# Altium footprint library Connector - FFC_FPC.PcbLib: 57 footprints (part 1 of 4)
Each footprint in its own frame and in the unit in brackets; x right, y up, seen from the top. Pads: shape width x height; smd on the part's side, far side on the other; paste and mask are expansions set on the pad; w line width, h text height; cw(c..) or ccw(c..) is an arc to the next point about the centre after c.
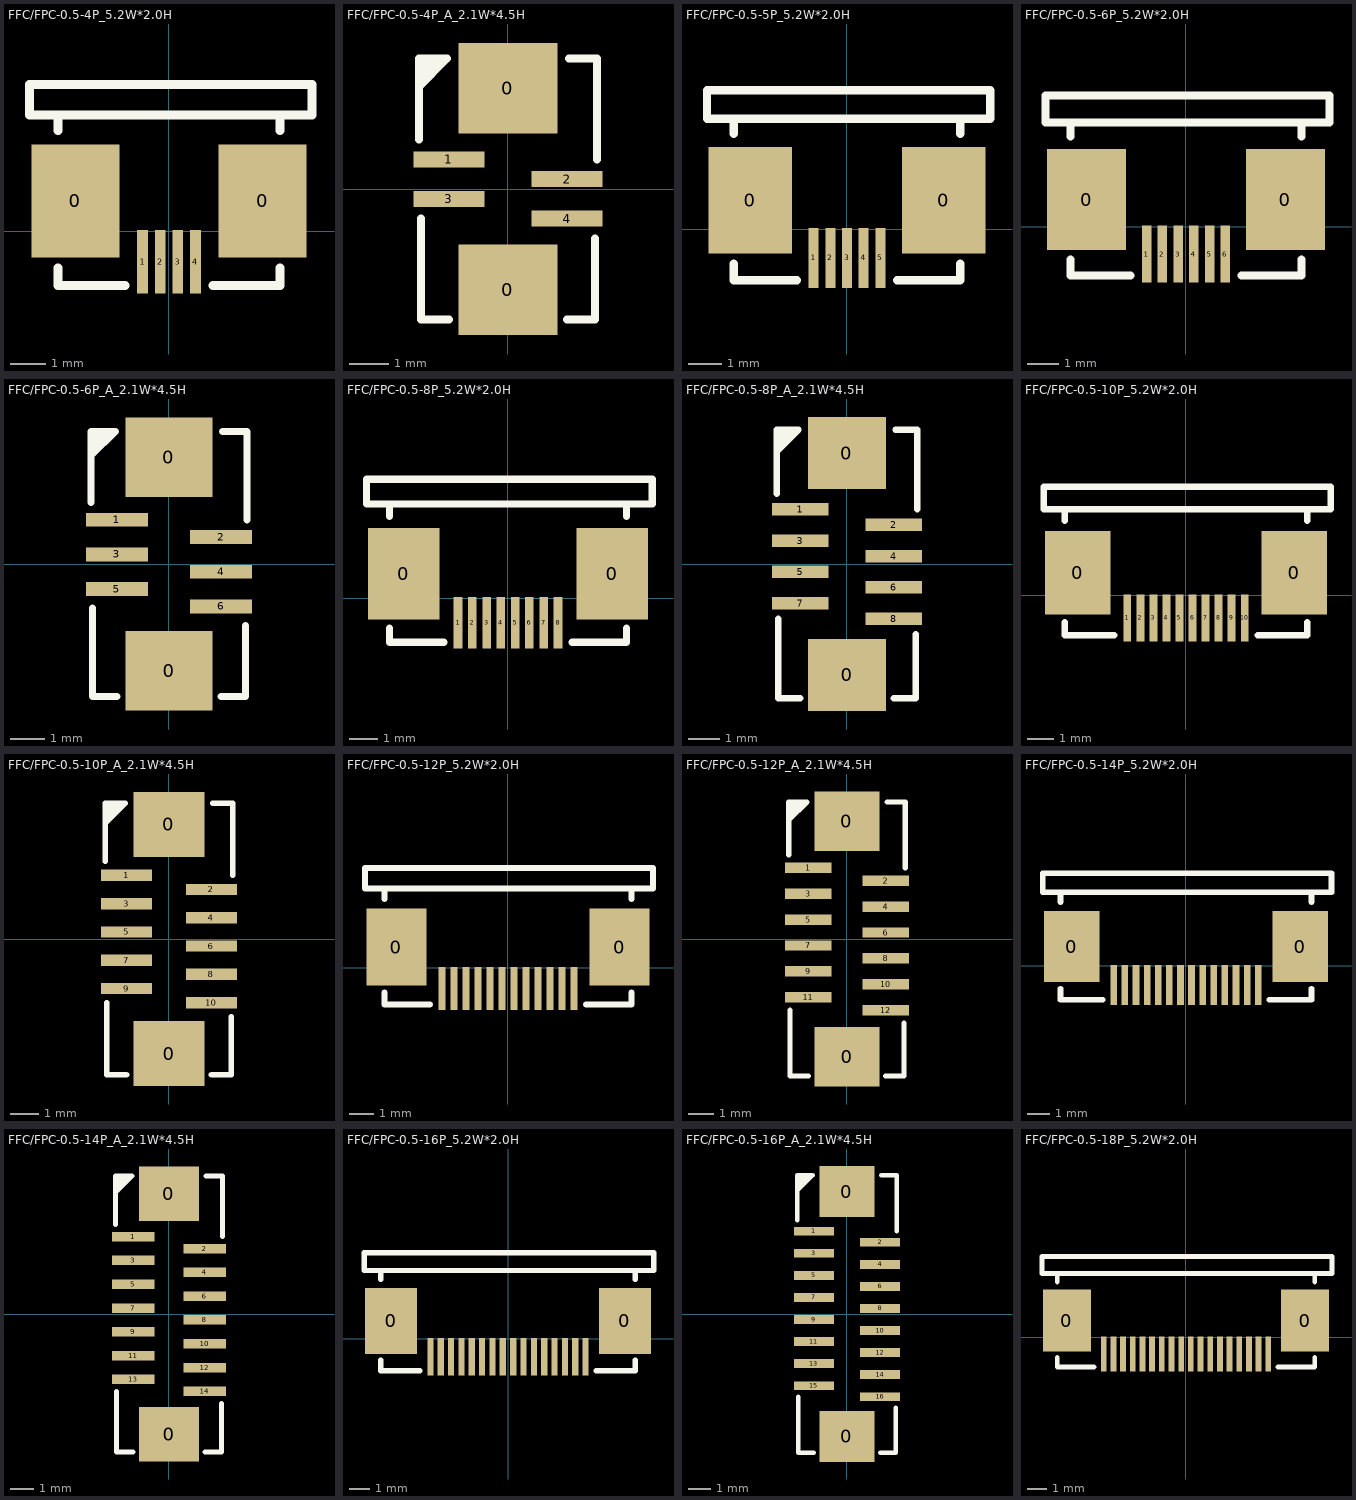
[diagram p0: the footprints below, top view; thin cyan lines are the x and y axes]

## FFC/FPC-0.5-4P_5.2W*2.0H [mm]
pads (6):
  rect 2.5x3.2 smd: 0(-2.65,0.863) 0(2.65,0.863)
  rect 0.3x1.8 smd: 1(-0.75,-0.863) 2(-0.25,-0.863) 3(0.25,-0.863) 4(0.75,-0.863)
Top Overlay:
  lines w0.254: -3.15,-1.037 -3.15,-1.538 -1.25,-1.538 ; -3.15,2.863 -3.15,3.303 ; 1.25,-1.538 3.15,-1.538 3.15,-1.037 ; 3.15,2.863 3.15,3.303 ; -3.95,3.303 4.05,3.303 4.05,4.163 -3.95,4.163 -3.95,3.303

## FFC/FPC-0.5-4P_A_2.1W*4.5H [mm]
pads (6):
  rect 2.5x2.3 smd: 0(0,-2.55) 0(0,2.55)
  rect 1.8x0.4 smd: 1(-1.5,0.75) 2(1.5,0.25) 3(-1.5,-0.25) 4(1.5,-0.75)
Top Overlay:
  region: -2.25,3.3 -1.55,3.3 -2.25,2.6
  lines w0.203: -2.25,1.25 -2.25,3.3 -1.55,3.3 ; -2.25,2.6 -1.55,3.3 ; -2.2,-0.75 -2.2,-3.3 -1.5,-3.3 ; 1.5,-3.3 2.2,-3.3 2.2,-1.25 ; 1.55,3.3 2.25,3.3 2.25,0.75 ; -1.55,3.3 -1.55,3.3

## FFC/FPC-0.5-5P_5.2W*2.0H [mm]
pads (7):
  rect 2.5x3.2 smd: 0(-2.9,0.863) 0(2.9,0.863)
  rect 0.3x1.8 smd: 1(-1,-0.862) 2(-0.5,-0.862) 3(0,-0.862) 4(0.5,-0.862) 5(1,-0.862)
Top Overlay:
  lines w0.254: -3.4,-1.037 -3.4,-1.537 -1.5,-1.537 ; -3.4,2.863 -3.4,3.303 ; 1.5,-1.537 3.4,-1.537 3.4,-1.037 ; 3.4,2.863 3.4,3.303 ; -4.2,3.303 -4.2,4.163 4.3,4.163 4.3,3.303 -4.2,3.303

## FFC/FPC-0.5-6P_5.2W*2.0H [mm]
pads (8):
  rect 2.5x3.2 smd: 0(-3.15,0.863) 0(3.15,0.863)
  rect 0.3x1.8 smd: 1(-1.25,-0.862) 2(-0.75,-0.862) 3(-0.25,-0.862) 4(0.25,-0.862) 5(0.75,-0.862) 6(1.25,-0.862)
Top Overlay:
  lines w0.254: -3.65,-1.037 -3.65,-1.537 -1.75,-1.537 ; -3.65,2.863 -3.65,3.303 ; 1.75,-1.537 3.65,-1.537 3.65,-1.037 ; 3.65,2.863 3.65,3.303 ; -4.45,3.303 4.55,3.303 4.55,4.163 -4.45,4.163 -4.45,3.303

## FFC/FPC-0.5-6P_A_2.1W*4.5H [mm]
pads (8):
  rect 2.5x2.3 smd: 0(0,3.075) 0(0,-3.075)
  rect 1.8x0.4 smd: 1(-1.5,1.275) 2(1.5,0.775) 3(-1.5,0.275) 4(1.5,-0.225) 5(-1.5,-0.725) 6(1.5,-1.225)
Top Overlay:
  region: -2.25,3.825 -1.55,3.825 -2.25,3.125
  lines w0.203: -2.25,1.775 -2.25,3.825 -1.55,3.825 ; -2.25,3.125 -1.55,3.825 ; -2.2,-1.275 -2.2,-3.825 -1.5,-3.825 ; 1.5,-3.825 2.2,-3.825 2.2,-1.775 ; 1.55,3.825 2.25,3.825 2.25,1.275 ; -1.55,3.825 -1.55,3.825

## FFC/FPC-0.5-8P_5.2W*2.0H [mm]
pads (10):
  rect 2.5x3.2 smd: 0(-3.65,0.863) 0(3.65,0.863)
  rect 0.3x1.8 smd: 1(-1.75,-0.863) 2(-1.25,-0.863) 3(-0.75,-0.863) 4(-0.25,-0.863) 5(0.25,-0.863) 6(0.75,-0.863) 7(1.25,-0.863) 8(1.75,-0.863)
Top Overlay:
  lines w0.254: -4.15,-1.037 -4.15,-1.538 -2.25,-1.538 ; -4.15,2.863 -4.15,3.303 ; 2.25,-1.538 4.15,-1.538 4.15,-1.037 ; 4.15,2.863 4.15,3.303 ; -4.95,3.303 5.05,3.303 5.05,4.163 -4.95,4.163 -4.95,3.303

## FFC/FPC-0.5-8P_A_2.1W*4.5H [mm]
pads (10):
  rect 2.5x2.3 smd: 0(0,3.55) 0(0,-3.55)
  rect 1.8x0.4 smd: 1(-1.5,1.75) 2(1.5,1.25) 3(-1.5,0.75) 4(1.5,0.25) 5(-1.5,-0.25) 6(1.5,-0.75) 7(-1.5,-1.25) 8(1.5,-1.75)
Top Overlay:
  region: -2.25,4.3 -1.55,4.3 -2.25,3.6
  lines w0.203: -2.25,2.25 -2.25,4.3 -1.55,4.3 ; -2.25,3.6 -1.55,4.3 ; -2.2,-1.75 -2.2,-4.3 -1.5,-4.3 ; 1.5,-4.3 2.2,-4.3 2.2,-2.25 ; 1.55,4.3 2.25,4.3 2.25,1.75 ; -1.55,4.3 -1.55,4.3

## FFC/FPC-0.5-10P_5.2W*2.0H [mm]
pads (12):
  rect 2.5x3.2 smd: 0(-4.15,0.863) 0(4.15,0.863)
  rect 0.3x1.8 smd: 1(-2.25,-0.862) 2(-1.75,-0.862) 3(-1.25,-0.862) 4(-0.75,-0.862) 5(-0.25,-0.862) 6(0.25,-0.862) 7(0.75,-0.862) 8(1.25,-0.862) 9(1.75,-0.862) 10(2.25,-0.862)
Top Overlay:
  lines w0.254: -4.65,-1.037 -4.65,-1.537 -2.75,-1.537 ; -4.65,2.863 -4.65,3.303 ; 2.75,-1.537 4.65,-1.537 4.65,-1.037 ; 4.65,2.863 4.65,3.303 ; -5.45,3.303 5.55,3.303 5.55,4.163 -5.45,4.163 -5.45,3.303

## FFC/FPC-0.5-10P_A_2.1W*4.5H [mm]
pads (12):
  rect 2.5x2.3 smd: 0(0,4.05) 0(0,-4.05)
  rect 1.8x0.4 smd: 1(-1.5,2.25) 2(1.5,1.75) 3(-1.5,1.25) 4(1.5,0.75) 5(-1.5,0.25) 6(1.5,-0.25) 7(-1.5,-0.75) 8(1.5,-1.25) 9(-1.5,-1.75) 10(1.5,-2.25)
Top Overlay:
  region: -2.25,4.8 -1.55,4.8 -2.25,4.1
  lines w0.203: -2.25,2.75 -2.25,4.8 -1.55,4.8 ; -2.25,4.1 -1.55,4.8 ; -2.2,-2.25 -2.2,-4.8 -1.5,-4.8 ; 1.5,-4.8 2.2,-4.8 2.2,-2.75 ; 1.55,4.8 2.25,4.8 2.25,2.25 ; -1.55,4.8 -1.55,4.8

## FFC/FPC-0.5-12P_5.2W*2.0H [mm]
pads (14):
  rect 2.5x3.2 smd: 0(-4.65,0.863) 0(4.65,0.863)
  rect 0.3x1.8 smd: 1(-2.75,-0.863) 2(-2.25,-0.863) 3(-1.75,-0.863) 4(-1.25,-0.863) 5(-0.75,-0.863) 6(-0.25,-0.863) 7(0.25,-0.863) 8(0.75,-0.863) 9(1.25,-0.863) 10(1.75,-0.863) 11(2.25,-0.863) 12(2.75,-0.863)
Top Overlay:
  lines w0.254: -5.15,-1.037 -5.15,-1.538 -3.25,-1.538 ; -5.15,2.863 -5.15,3.303 ; 3.25,-1.538 5.15,-1.538 5.15,-1.037 ; 5.15,2.863 5.15,3.303 ; 5.15,3.303 -5.95,3.303 -5.95,4.163 6.05,4.163 6.05,3.303 5.15,3.303

## FFC/FPC-0.5-12P_A_2.1W*4.5H [mm]
pads (14):
  rect 2.5x2.3 smd: 0(0,4.55) 0(0,-4.55)
  rect 1.8x0.4 smd: 1(-1.5,2.75) 2(1.5,2.25) 3(-1.5,1.75) 4(1.5,1.25) 5(-1.5,0.75) 6(1.5,0.25) 7(-1.5,-0.25) 8(1.5,-0.75) 9(-1.5,-1.25) 10(1.5,-1.75) 11(-1.5,-2.25) 12(1.5,-2.75)
Top Overlay:
  region: -2.25,5.3 -1.55,5.3 -2.25,4.6
  lines w0.203: -2.25,3.25 -2.25,5.3 -1.55,5.3 ; -2.25,4.6 -1.55,5.3 ; -2.2,-2.75 -2.2,-5.3 -1.5,-5.3 ; 1.5,-5.3 2.2,-5.3 2.2,-3.25 ; 1.55,5.3 2.25,5.3 2.25,2.75 ; -1.55,5.3 -1.55,5.3

## FFC/FPC-0.5-14P_5.2W*2.0H [mm]
pads (16):
  rect 2.5x3.2 smd: 0(-5.15,0.863) 0(5.15,0.863)
  rect 0.3x1.8 smd: 1(-3.25,-0.862) 2(-2.75,-0.862) 3(-2.25,-0.862) 4(-1.75,-0.862) 5(-1.25,-0.862) 6(-0.75,-0.862) 7(-0.25,-0.862) 8(0.25,-0.862) 9(0.75,-0.862) 10(1.25,-0.862) 11(1.75,-0.862) 12(2.25,-0.862) 13(2.75,-0.862) 14(3.25,-0.862)
Top Overlay:
  lines w0.254: -5.65,-1.037 -5.65,-1.537 -3.75,-1.537 ; -5.65,2.863 -5.65,3.303 ; 3.75,-1.537 5.65,-1.537 5.65,-1.037 ; 5.65,2.863 5.65,3.303 ; 5.65,3.303 -6.45,3.303 -6.45,4.163 6.55,4.163 6.55,3.303 5.65,3.303

## FFC/FPC-0.5-14P_A_2.1W*4.5H [mm]
pads (16):
  rect 2.5x2.3 smd: 0(0,5.05) 0(0,-5.05)
  rect 1.8x0.4 smd: 1(-1.5,3.25) 2(1.5,2.75) 3(-1.5,2.25) 4(1.5,1.75) 5(-1.5,1.25) 6(1.5,0.75) 7(-1.5,0.25) 8(1.5,-0.25) 9(-1.5,-0.75) 10(1.5,-1.25) 11(-1.5,-1.75) 12(1.5,-2.25) 13(-1.5,-2.75) 14(1.5,-3.25)
Top Overlay:
  region: -2.25,5.8 -1.55,5.8 -2.25,5.1
  lines w0.203: -2.25,3.75 -2.25,5.8 -1.55,5.8 ; -2.25,5.1 -1.55,5.8 ; -2.2,-3.25 -2.2,-5.8 -1.5,-5.8 ; 1.5,-5.8 2.2,-5.8 2.2,-3.75 ; 1.55,5.8 2.25,5.8 2.25,3.25 ; -1.55,5.8 -1.55,5.8

## FFC/FPC-0.5-16P_5.2W*2.0H [mm]
pads (18):
  rect 2.5x3.2 smd: 0(-5.65,0.863) 0(5.65,0.863)
  rect 0.3x1.8 smd: 1(-3.75,-0.863) 2(-3.25,-0.863) 3(-2.75,-0.863) 4(-2.25,-0.863) 5(-1.75,-0.863) 6(-1.25,-0.863) 7(-0.75,-0.863) 8(-0.25,-0.863) 9(0.25,-0.863) 10(0.75,-0.863) 11(1.25,-0.863) 12(1.75,-0.863) 13(2.25,-0.863) 14(2.75,-0.863) 15(3.25,-0.863) 16(3.75,-0.863)
Top Overlay:
  lines w0.254: -6.15,-1.037 -6.15,-1.538 -4.25,-1.538 ; -6.15,2.863 -6.15,3.303 ; 4.25,-1.538 6.15,-1.538 6.15,-1.037 ; 6.15,2.863 6.15,3.303 ; 6.15,3.303 7.05,3.303 7.05,4.163 -6.95,4.163 -6.95,3.303 6.15,3.303

## FFC/FPC-0.5-16P_A_2.1W*4.5H [mm]
pads (18):
  rect 2.5x2.3 smd: 0(0,-5.55) 0(0,5.55)
  rect 1.8x0.4 smd: 1(-1.5,3.75) 2(1.5,3.25) 3(-1.5,2.75) 4(1.5,2.25) 5(-1.5,1.75) 6(1.5,1.25) 7(-1.5,0.75) 8(1.5,0.25) 9(-1.5,-0.25) 10(1.5,-0.75) 11(-1.5,-1.25) 12(1.5,-1.75) 13(-1.5,-2.25) 14(1.5,-2.75) 15(-1.5,-3.25) 16(1.5,-3.75)
Top Overlay:
  region: -2.25,6.3 -1.55,6.3 -2.25,5.6
  lines w0.203: -2.25,4.25 -2.25,6.3 -1.55,6.3 ; -2.25,5.6 -1.55,6.3 ; -2.2,-3.75 -2.2,-6.3 -1.5,-6.3 ; 1.5,-6.3 2.2,-6.3 2.2,-4.25 ; 1.55,6.3 2.25,6.3 2.25,3.75 ; -1.55,6.3 -1.55,6.3

## FFC/FPC-0.5-18P_5.2W*2.0H [mm]
pads (20):
  rect 2.5x3.2 smd: 0(-6.15,0.863) 0(6.15,0.863)
  rect 0.3x1.8 smd: 1(-4.25,-0.862) 2(-3.75,-0.862) 3(-3.25,-0.862) 4(-2.75,-0.862) 5(-2.25,-0.862) 6(-1.75,-0.862) 7(-1.25,-0.862) 8(-0.75,-0.862) 9(-0.25,-0.862) 10(0.25,-0.862) 11(0.75,-0.862) 12(1.25,-0.862) 13(1.75,-0.862) 14(2.25,-0.862) 15(2.75,-0.862) 16(3.25,-0.862) 17(3.75,-0.862) 18(4.25,-0.862)
Top Overlay:
  lines w0.254: -6.65,-1.037 -6.65,-1.537 -4.75,-1.537 ; -6.65,2.863 -6.65,3.303 ; 4.75,-1.537 6.65,-1.537 6.65,-1.037 ; 6.65,2.863 6.65,3.303 ; 6.65,3.303 -7.45,3.303 -7.45,4.163 7.55,4.163 7.55,3.303 6.65,3.303